# Altium footprint library SOP17P65_500X640X120L60X24T292X249N.PcbLib: 1 footprints
Each footprint in its own frame and in the unit in brackets; x right, y up, seen from the top. Pads: shape width x height; smd on the part's side, far side on the other; paste and mask are expansions set on the pad; w line width, h text height; cw(c..) or ccw(c..) is an arc to the next point about the centre after c.
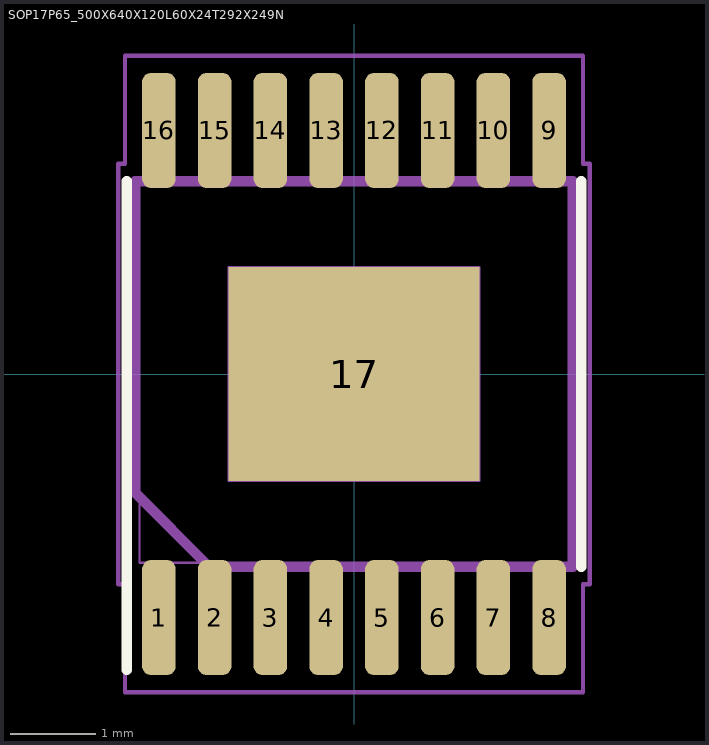
[diagram p0: the footprint, top view; thin cyan lines are the x and y axes]

## SOP17P65_500X640X120L60X24T292X249N [mm] "Small Outline Pkg (SOP with Tab), 0.65 mm pitch; 16 pin, 5.00 mm L X 4.40 mm W X 1.20 mm H body"
height 1.2
pads (17):
  rrect51% 0.39x1.34 smd: 1(-2.275,-2.84) 2(-1.625,-2.84) 3(-0.975,-2.84) 4(-0.325,-2.84) 5(0.325,-2.84) 6(0.975,-2.84) 7(1.625,-2.84) 8(2.275,-2.84) 9(2.275,2.84) 10(1.625,2.84) 11(0.975,2.84) 12(0.325,2.84) 13(-0.325,2.84) 14(-0.975,2.84) 15(-1.625,2.84) 16(-2.275,2.84)
  rect 2.925x2.49 smd paste-2.925: 17(0,0)
Top Overlay:
  lines w0.12: -2.65,-3.45 -2.65,-2.25 -2.65,2.25 ; 2.65,-2.25 2.65,2.25
Top Paste:
  region: 1.285,-1.065 0.185,-1.065 0.185,-0.185 1.285,-0.185
  region: 1.285,0.185 0.185,0.185 0.185,1.065 1.285,1.065
  region: -0.185,-1.065 -1.285,-1.065 -1.285,-0.185 -0.185,-0.185
  region: -0.185,0.185 -1.285,0.185 -1.285,1.065 -0.185,1.065
Mechanical 3:
  lines w0.12: -2.55,-1.387 -1.687,-2.25 2.55,-2.25 2.55,2.25 -2.55,2.25 -2.55,-1.387
Mechanical 5:
  lines w0.025: -2.5,-2.2 -2.5,2.2 2.5,2.2 2.5,-2.2 -2.5,-2.2 ; -2.398,-3.2 -2.153,-3.2 -2.153,-2.6 -2.398,-2.6 -2.398,-3.2 ; -2.398,2.6 -2.153,2.6 -2.153,3.2 -2.398,3.2 -2.398,2.6 ; -1.747,-3.2 -1.502,-3.2 -1.502,-2.6 -1.747,-2.6 -1.747,-3.2 ; -1.747,2.6 -1.502,2.6 -1.502,3.2 -1.747,3.2 -1.747,2.6 ; -1.462,-1.245 1.462,-1.245 1.462,1.245 -1.462,1.245 -1.462,-1.245 ; -1.098,-3.2 -0.853,-3.2 -0.853,-2.6 -1.098,-2.6 -1.098,-3.2 ; -1.098,2.6 -0.853,2.6 -0.853,3.2 -1.098,3.2 -1.098,2.6 ; -0.447,-3.2 -0.202,-3.2 -0.202,-2.6 -0.447,-2.6 -0.447,-3.2 ; -0.447,2.6 -0.202,2.6 -0.202,3.2 -0.447,3.2 -0.447,2.6 ; 0.202,-3.2 0.447,-3.2 0.447,-2.6 0.202,-2.6 0.202,-3.2 ; 0.202,2.6 0.447,2.6 0.447,3.2 0.202,3.2 0.202,2.6 ; 0.853,-3.2 1.098,-3.2 1.098,-2.6 0.853,-2.6 0.853,-3.2 ; 0.853,2.6 1.098,2.6 1.098,3.2 0.853,3.2 0.853,2.6 ; 1.502,-3.2 1.747,-3.2 1.747,-2.6 1.502,-2.6 1.502,-3.2 ; 1.502,2.6 1.747,2.6 1.747,3.2 1.502,3.2 1.502,2.6 ; 2.153,-3.2 2.398,-3.2 2.398,-2.6 2.153,-2.6 2.153,-3.2 ; 2.153,2.6 2.398,2.6 2.398,3.2 2.153,3.2 2.153,2.6
Mechanical 7:
  circle w0.05: c0,0 r0.25
  lines w0.05: -0.35,0 0.35,0 ; 0,-0.35 0,0.35 ; -2.75,-2.45 -2.75,2.45 -2.67,2.45 -2.67,3.71 2.67,3.71 2.67,2.45 2.75,2.45 2.75,-2.45 2.67,-2.45 2.67,-3.71 -2.67,-3.71 -2.67,-2.45 -2.75,-2.45
Mechanical 9:
  text "'.Designator'" at -4.975,-0.3 h1
3D body "SOP17P65_500X640X120L60X24T292X249.STEP": height 1.2, standoff 0, extent -2.5,-3.2 2.5,3.2
3D body: height 1, standoff 0, extent -2.75,-3.71 2.75,3.71